# Altium schematic symbol library WL-SFTD.SchLib: 5 symbols
Pins are listed as number, name and electrical type; pins without a type are passive.

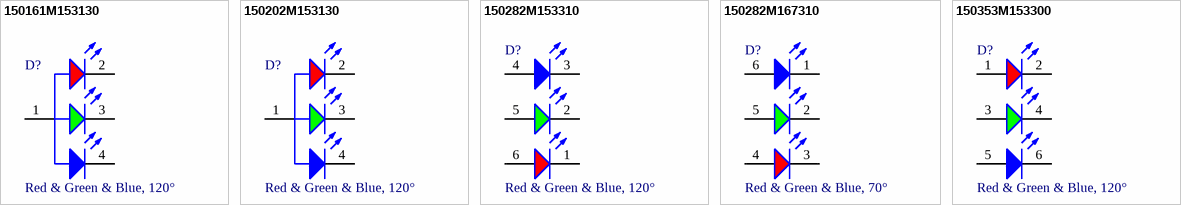
[diagram p0: symbols 150161M153130 to 150353M153300]

## 150161M153130
designator D?, comment Red & Green & Blue, 120°
WL-SFTD Full-color Top LED Diffused, size 1616, Red & Green & Blue, 120°; Manufacturer Part Number: 150161M153130; Manufacturer: Wurth Elektronik; Case/Size Code: 1616; Chip Technology: AlInGaP + GaN; Dominant Wavelength (Blue): 470nm; Dominant Wavelength (Green): 520nm; Dominant Wavelength (Red): 625nm; Forward Voltage (Blue): 3.2V; Forward Voltage (Red): 2V; Luminous Intensity (Blue): 60mcd; Luminous Intensity (Green): 400mcd; Luminous Intensity (Red): 200mcd; Peak Wavelength (Blue): 465nm; Peak Wavelength (Green): 515nm; Peak Wavelength (Red): 635nm; Category: Signal LEDs; Match Code: WL-SFTD; ComponentLink1Description: Website Link; ComponentLink1URL: https://www.we-online.com/redexpert/article/150161M153130?ad; ComponentLink2Description: Datasheet Link; ComponentLink2URL: https://www.we-online.com/redexpert/spec/150161M153130?ad; Mount: Surface Mount; Min Operating Temperature: -40°C; Max Operating Temperature: 85°C; Packaging: Tape and Reel; Length: 1.7mm; Width: 1.6mm; Height: 1.6mm; Emitting Color: Red & Green & Blue; Forward Voltage (Green): 3.2V; Viewing Angle: 120°
footprint WL-SFTD_1616_150161M153130
simulation model 1616_150161M153130
pins: 1 A, 2 K, 3 K, 4 K

## 150202M153130
designator D?, comment Red & Green & Blue, 120°
WL-SFTD Full-color Top LED Diffused, size 2022, Red & Green & Blue, 120°; Manufacturer Part Number: 150202M153130; Manufacturer: Wurth Elektronik; Case/Size Code: 2022; Chip Technology: AlInGaP + GaN; Dominant Wavelength (Blue): 470nm; Dominant Wavelength (Green): 520nm; Dominant Wavelength (Red): 625nm; Forward Voltage (Blue): 3.2V; Forward Voltage (Red): 2V; Luminous Intensity (Blue): 120mcd; Luminous Intensity (Green): 750mcd; Luminous Intensity (Red): 350mcd; Peak Wavelength (Blue): 465nm; Peak Wavelength (Green): 515nm; Peak Wavelength (Red): 635nm; Category: Signal LEDs; Match Code: WL-SFTD; ComponentLink1Description: Website Link; ComponentLink1URL: https://www.we-online.com/redexpert/article/150202M153130?ad; ComponentLink2Description: Datasheet Link; ComponentLink2URL: https://www.we-online.com/redexpert/spec/150202M153130?ad; Mount: Surface Mount; Min Operating Temperature: -40°C; Max Operating Temperature: 85°C; Packaging: Tape and Reel; Length: 2.2mm; Width: 2mm; Height: 1.9mm; Emitting Color: Red & Green & Blue; Forward Voltage (Green): 3.2V; Viewing Angle: 120°
footprint WL-SFTD_2022_150202M153130
simulation model 2022_150202M153130
pins: 1 A, 2 K, 3 K, 4 K

## 150282M153310
designator D?, comment Red & Green & Blue, 120°
WL-SFTD Full-color Top LED Diffused, size 2828, Red & Green & Blue, 120°; Manufacturer Part Number: 150282M153310; Manufacturer: Wurth Elektronik; Case/Size Code: 2828; Chip Technology: AlInGaP + GaN; Dominant Wavelength (Blue): 470nm; Dominant Wavelength (Green): 520nm; Dominant Wavelength (Red): 625nm; Forward Voltage (Blue): 3.2V; Forward Voltage (Red): 2V; Luminous Intensity (Blue): 400mcd; Luminous Intensity (Green): 1900mcd; Luminous Intensity (Red): 800mcd; Peak Wavelength (Blue): 465nm; Peak Wavelength (Green): 515nm; Peak Wavelength (Red): 635nm; Category: Signal LEDs; Match Code: WL-SFTD; ComponentLink1Description: Website Link; ComponentLink1URL: https://www.we-online.com/redexpert/article/150282M153310?ad; ComponentLink2Description: Datasheet Link; ComponentLink2URL: https://www.we-online.com/redexpert/spec/150282M153310?ad; Mount: Surface Mount; Min Operating Temperature: -40°C; Max Operating Temperature: 85°C; Packaging: Tape and Reel; Length: 2.84mm; Width: 2.74mm; Height: 2.45mm; Emitting Color: Red & Green & Blue; Forward Voltage (Green): 3.2V; Viewing Angle: 120°
footprint WL-SFTD_2828_150282M153310
simulation model 2828_150282M153310
pins: 1 K, 2 K, 3 K, 4 A, 5 A, 6 A

## 150282M167310
designator D?, comment Red & Green & Blue, 70°
WL-SFTD Full-color Top LED Diffused, size 2828, Red & Green & Blue, 70°; Manufacturer Part Number: 150282M167310; Manufacturer: Wurth Elektronik; Case/Size Code: 2828; Chip Technology: AlInGaP + GaN; Dominant Wavelength (Blue): 470nm; Dominant Wavelength (Green): 530nm; Dominant Wavelength (Red): 620nm; Forward Voltage (Blue): 3.2V; Forward Voltage (Red): 2V; Luminous Intensity (Blue): 600mcd; Luminous Intensity (Green): 3000mcd; Luminous Intensity (Red): 1200mcd; Peak Wavelength (Blue): 465nm; Peak Wavelength (Green): 515nm; Peak Wavelength (Red): 635nm; Category: Signal LEDs; Match Code: WL-SFTD; ComponentLink1Description: Website Link; ComponentLink1URL: https://www.we-online.com/redexpert/article/150282M167310?ad; ComponentLink2Description: Datasheet Link; ComponentLink2URL: https://www.we-online.com/redexpert/spec/150282M167310?ad; Mount: Surface Mount; Min Operating Temperature: -40°C; Max Operating Temperature: 85°C; Packaging: Tape and Reel; Length: 2.8mm; Width: 2.7mm; Height: 3mm; Emitting Color: Red & Green & Blue; Forward Voltage (Green): 3.2V; Viewing Angle: 70°
footprint WL-SFTD_2828_150282M167310
pins: 1 K, 2 K, 3 K, 4 A, 5 A, 6 A

## 150353M153300
designator D?, comment Red & Green & Blue, 120°
WL-SFTD Full-color Top LED Diffused, size 3535, Red & Green & Blue, 120°; Manufacturer Part Number: 150353M153300; Manufacturer: Wurth Elektronik; Case/Size Code: 3535; Chip Technology: AlInGaP + GaN; Dominant Wavelength (Blue): 470nm; Dominant Wavelength (Green): 520nm; Dominant Wavelength (Red): 625nm; Forward Voltage (Blue): 3.2V; Forward Voltage (Red): 2V; Luminous Intensity (Blue): 400mcd; Luminous Intensity (Green): 1900mcd; Luminous Intensity (Red): 800mcd; Peak Wavelength (Blue): 465nm; Peak Wavelength (Green): 515nm; Peak Wavelength (Red): 635nm; Category: Signal LEDs; Match Code: WL-SFTD; ComponentLink1Description: Website Link; ComponentLink1URL: https://www.we-online.com/redexpert/article/150353M153300?ad; ComponentLink2Description: Datasheet Link; ComponentLink2URL: https://www.we-online.com/redexpert/spec/150353M153300?ad; Mount: Surface Mount; Min Operating Temperature: -40°C; Max Operating Temperature: 85°C; Packaging: Tape and Reel; Length: 3.7mm; Width: 3.5mm; Height: 2.8mm; Emitting Color: Red & Green & Blue; Forward Voltage (Green): 3.2V; Viewing Angle: 120°
footprint WL-SFTD_3535_150353M153300
simulation model 3535_150353M153300
pins: 1 A, 2 K, 3 A, 4 K, 5 A, 6 K